# Altium integrated library Altium_WE-XTAL (rev19a).IntLib: 251 symbols (part 4 of 4)
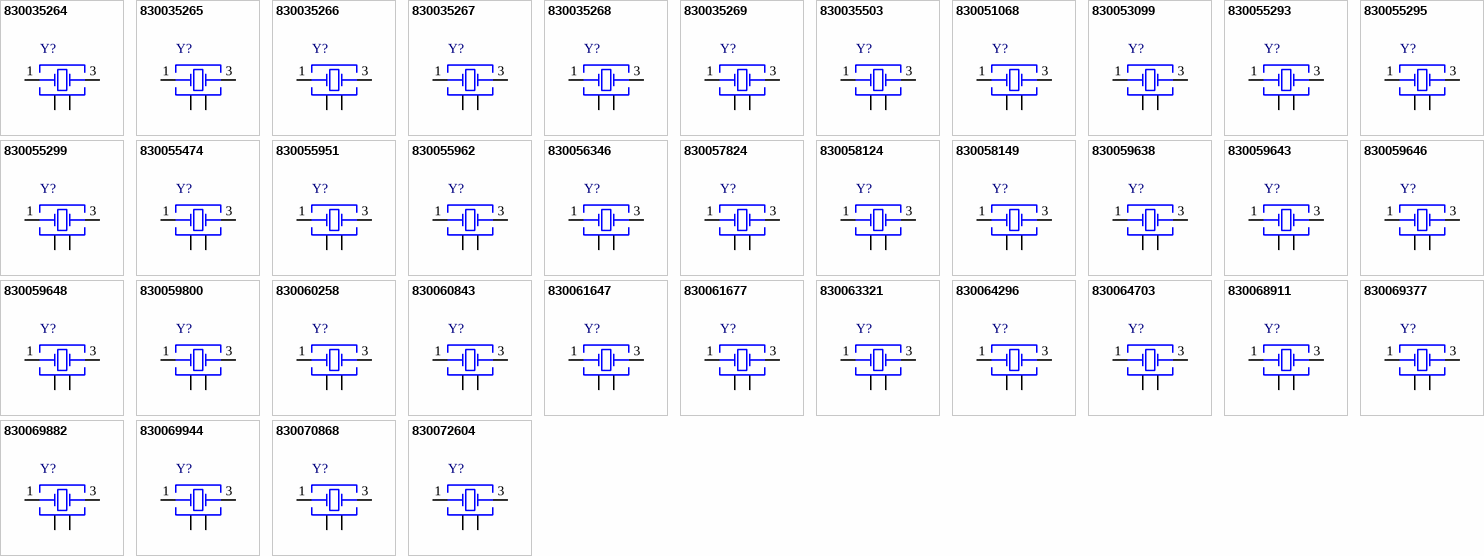
[diagram p20: symbols 830035264 to 830072604]

## 830069944
designator Y?, comment 12MHz, +/-20ppm, 15pF  (value not drawn)
WE-XTAL Quartz Crystal, size CFPX-180, 12MHz, +/-20ppm, 15pF; Part Number: 830069944; Frequency Stability: 30ppm; ComponentLink1Description: Manufacturer; ComponentLink1URL: http://www.we-online.de; ComponentLink2Description: Datasheet; ComponentLink2URL: https://katalog.we-online.com/pbs/datasheet/830069944.pdf; Published Date: March 2019; Publisher: Wurth Elektronik; Size: CFPX-180; Operating Temperature: -40 up to +85degC; Mounting Technology: SMT; Packaging: Tape and Reel; Load Capacitance: 15pF; Frequency Tolerance: +/-20ppm; Frequency: 12MHz
footprint WE-XTAL_CFPX-180
pins: 1 OSC1, 2 GND, 3 OSC2, 4 GND

## 830070868
designator Y?, comment 12MHz, +/-10ppm, 18pF  (value not drawn)
WE-XTAL Quartz Crystal, size CFPX-180, 12MHz, +/-10ppm, 18pF; Part Number: 830070868; Frequency Stability: 20ppm; ComponentLink1Description: Manufacturer; ComponentLink1URL: http://www.we-online.de; ComponentLink2Description: Datasheet; ComponentLink2URL: https://katalog.we-online.com/pbs/datasheet/830070868.pdf; Published Date: March 2019; Publisher: Wurth Elektronik; Size: CFPX-180; Operating Temperature: -40 up to +85degC; Mounting Technology: SMT; Packaging: Tape and Reel; Load Capacitance: 18pF; Frequency Tolerance: +/-10ppm; Frequency: 12MHz
footprint WE-XTAL_CFPX-180
pins: 1 OSC1, 2 GND, 3 OSC2, 4 GND

## 830072604
designator Y?, comment 25MHz, +/-10ppm, 8pF  (value not drawn)
WE-XTAL Quartz Crystal, size CFPX-180, 25MHz, +/-10ppm, 8pF; Part Number: 830072604; Frequency Stability: 20ppm; ComponentLink1Description: Manufacturer; ComponentLink1URL: http://www.we-online.de; ComponentLink2Description: Datasheet; ComponentLink2URL: https://katalog.we-online.com/pbs/datasheet/830072604.pdf; Published Date: March 2019; Publisher: Wurth Elektronik; Size: CFPX-180; Operating Temperature: -40 up to +85degC; Mounting Technology: SMT; Packaging: Tape and Reel; Load Capacitance: 8pF; Frequency Tolerance: +/-10ppm; Frequency: 25MHz
footprint WE-XTAL_CFPX-180
pins: 1 OSC1, 2 GND, 3 OSC2, 4 GND


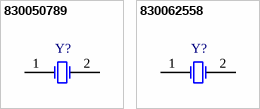
[diagram p13: symbols 830050789 to 830062558]

## 830050789
designator Y?, comment 32.768kHz, +/-20ppm, 12.5pF  (value not drawn)
WE-XTAL Quartz Crystal, size IQXC-25, 32.768kHz, +/-20ppm, 12.5pF; Part Number: 830050789; ComponentLink1Description: Manufacturer; ComponentLink1URL: http://www.we-online.de; ComponentLink2Description: Datasheet; ComponentLink2URL: https://katalog.we-online.com/pbs/datasheet/830050789.pdf; Published Date: March 2019; Publisher: Wurth Elektronik; Size: IQXC-25; Frequency Stability: -; Operating Temperature: -40 up to +85degC; Mounting Technology: SMT; Packaging: Tape and Reel; Load Capacitance: 12.5pF; Frequency Tolerance: +/-20ppm; Frequency: 32.768kHz
footprint WE-XTAL_IQXC-25
pins: 1 OSC1, 2 OSC2

## 830062558
designator Y?, comment 32.768kHz, +/-10ppm, 9pF  (value not drawn)
WE-XTAL Quartz Crystal, size IQXC-25, 32.768kHz, +/-10ppm, 9pF; Part Number: 830062558; ComponentLink1Description: Manufacturer; ComponentLink1URL: http://www.we-online.de; ComponentLink2Description: Datasheet; ComponentLink2URL: https://katalog.we-online.com/pbs/datasheet/830062558.pdf; Published Date: March 2019; Publisher: Wurth Elektronik; Size: IQXC-25; Frequency Stability: -; Operating Temperature: -40 up to +85degC; Mounting Technology: SMT; Packaging: Tape and Reel; Load Capacitance: 9pF; Frequency Tolerance: +/-10ppm; Frequency: 32.768kHz
footprint WE-XTAL_IQXC-25
pins: 1 OSC1, 2 OSC2


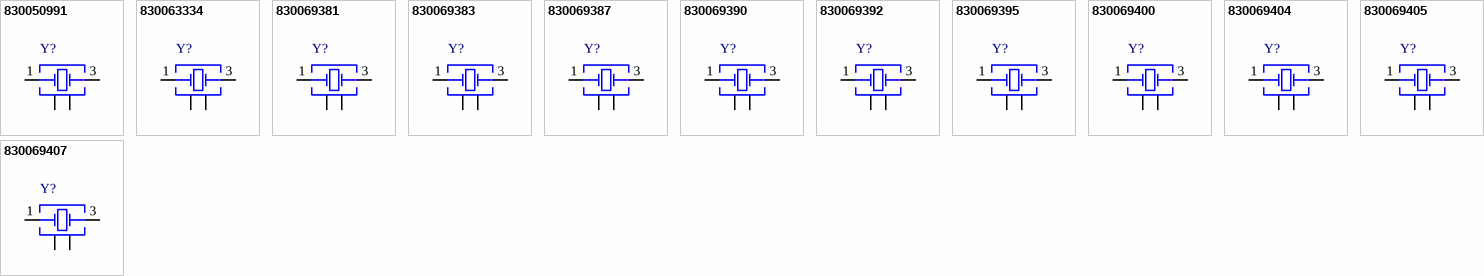
[diagram p14: symbols 830050991 to 830069407]

## 830050991
designator Y?, comment 26MHz, +/-20ppm, 10pF  (value not drawn)
WE-XTAL Quartz Crystal, size CFPX-218, 26MHz, +/-20ppm, 10pF; Part Number: 830050991; Frequency Stability: 20ppm; ComponentLink1Description: Manufacturer; ComponentLink1URL: http://www.we-online.de; ComponentLink2Description: Datasheet; ComponentLink2URL: https://katalog.we-online.com/pbs/datasheet/830050991.pdf; Published Date: March 2019; Publisher: Wurth Elektronik; Size: CFPX-218; Operating Temperature: -40 up to +85degC; Mounting Technology: SMT; Packaging: Tape and Reel; Load Capacitance: 10pF; Frequency Tolerance: +/-20ppm; Frequency: 26MHz
footprint WE-XTAL_CFPX-218
pins: 1 OSC1, 2 GND, 3 OSC2, 4 GND

## 830063334
designator Y?, comment 25MHz, +/-20ppm, 10pF  (value not drawn)
WE-XTAL Quartz Crystal, size CFPX-218, 25MHz, +/-20ppm, 10pF; Part Number: 830063334; Frequency Stability: 20ppm; ComponentLink1Description: Manufacturer; ComponentLink1URL: http://www.we-online.de; ComponentLink2Description: Datasheet; ComponentLink2URL: https://katalog.we-online.com/pbs/datasheet/830063334.pdf; Published Date: March 2019; Publisher: Wurth Elektronik; Size: CFPX-218; Operating Temperature: -40 up to +85degC; Mounting Technology: SMT; Packaging: Tape and Reel; Load Capacitance: 10pF; Frequency Tolerance: +/-20ppm; Frequency: 25MHz
footprint WE-XTAL_CFPX-218
pins: 1 OSC1, 2 GND, 3 OSC2, 4 GND

## 830069381
designator Y?, comment 20MHz, +/-20ppm, 10pF  (value not drawn)
WE-XTAL Quartz Crystal, size CFPX-218, 20MHz, +/-20ppm, 10pF; Part Number: 830069381; Frequency Stability: 20ppm; ComponentLink1Description: Manufacturer; ComponentLink1URL: http://www.we-online.de; ComponentLink2Description: Datasheet; ComponentLink2URL: https://katalog.we-online.com/pbs/datasheet/830069381.pdf; Published Date: March 2019; Publisher: Wurth Elektronik; Size: CFPX-218; Operating Temperature: -40 up to +85degC; Mounting Technology: SMT; Packaging: Tape and Reel; Load Capacitance: 10pF; Frequency Tolerance: +/-20ppm; Frequency: 20MHz
footprint WE-XTAL_CFPX-218
pins: 1 OSC1, 2 GND, 3 OSC2, 4 GND

## 830069383
designator Y?, comment 24MHz, +/-20ppm, 10pF  (value not drawn)
WE-XTAL Quartz Crystal, size CFPX-218, 24MHz, +/-20ppm, 10pF; Part Number: 830069383; Frequency Stability: 20ppm; ComponentLink1Description: Manufacturer; ComponentLink1URL: http://www.we-online.de; ComponentLink2Description: Datasheet; ComponentLink2URL: https://katalog.we-online.com/pbs/datasheet/830069383.pdf; Published Date: March 2019; Publisher: Wurth Elektronik; Size: CFPX-218; Operating Temperature: -40 up to +85degC; Mounting Technology: SMT; Packaging: Tape and Reel; Load Capacitance: 10pF; Frequency Tolerance: +/-20ppm; Frequency: 24MHz
footprint WE-XTAL_CFPX-218
pins: 1 OSC1, 2 GND, 3 OSC2, 4 GND

## 830069387
designator Y?, comment 24.576MHz, +/-20ppm, 10pF  (value not drawn)
WE-XTAL Quartz Crystal, size CFPX-218, 24.576MHz, +/-20ppm, 10pF; Part Number: 830069387; Frequency Stability: 20ppm; ComponentLink1Description: Manufacturer; ComponentLink1URL: http://www.we-online.de; ComponentLink2Description: Datasheet; ComponentLink2URL: https://katalog.we-online.com/pbs/datasheet/830069387.pdf; Published Date: March 2019; Publisher: Wurth Elektronik; Size: CFPX-218; Operating Temperature: -40 up to +85degC; Mounting Technology: SMT; Packaging: Tape and Reel; Load Capacitance: 10pF; Frequency Tolerance: +/-20ppm; Frequency: 24.576MHz
footprint WE-XTAL_CFPX-218
pins: 1 OSC1, 2 GND, 3 OSC2, 4 GND

## 830069390
designator Y?, comment 32MHz, +/-20ppm, 10pF  (value not drawn)
WE-XTAL Quartz Crystal, size CFPX-218, 32MHz, +/-20ppm, 10pF; Part Number: 830069390; Frequency Stability: 20ppm; ComponentLink1Description: Manufacturer; ComponentLink1URL: http://www.we-online.de; ComponentLink2Description: Datasheet; ComponentLink2URL: https://katalog.we-online.com/pbs/datasheet/830069390.pdf; Published Date: March 2019; Publisher: Wurth Elektronik; Size: CFPX-218; Operating Temperature: -40 up to +85degC; Mounting Technology: SMT; Packaging: Tape and Reel; Load Capacitance: 10pF; Frequency Tolerance: +/-20ppm; Frequency: 32MHz
footprint WE-XTAL_CFPX-218
pins: 1 OSC1, 2 GND, 3 OSC2, 4 GND

## 830069392
designator Y?, comment 16MHz, +/-20ppm, 10pF  (value not drawn)
WE-XTAL Quartz Crystal, size CFPX-218, 16MHz, +/-20ppm, 10pF; Part Number: 830069392; Frequency Stability: 20ppm; ComponentLink1Description: Manufacturer; ComponentLink1URL: http://www.we-online.de; ComponentLink2Description: Datasheet; ComponentLink2URL: https://katalog.we-online.com/pbs/datasheet/830069392.pdf; Published Date: March 2019; Publisher: Wurth Elektronik; Size: CFPX-218; Operating Temperature: -40 up to +85degC; Mounting Technology: SMT; Packaging: Tape and Reel; Load Capacitance: 10pF; Frequency Tolerance: +/-20ppm; Frequency: 16MHz
footprint WE-XTAL_CFPX-218
pins: 1 OSC1, 2 GND, 3 OSC2, 4 GND

## 830069395
designator Y?, comment 16.384MHz, +/-20ppm, 10pF  (value not drawn)
WE-XTAL Quartz Crystal, size CFPX-218, 16.384MHz, +/-20ppm, 10pF; Part Number: 830069395; Frequency Stability: 20ppm; ComponentLink1Description: Manufacturer; ComponentLink1URL: http://www.we-online.de; ComponentLink2Description: Datasheet; ComponentLink2URL: https://katalog.we-online.com/pbs/datasheet/830069395.pdf; Published Date: March 2019; Publisher: Wurth Elektronik; Size: CFPX-218; Operating Temperature: -40 up to +85degC; Mounting Technology: SMT; Packaging: Tape and Reel; Load Capacitance: 10pF; Frequency Tolerance: +/-20ppm; Frequency: 16.384MHz
footprint WE-XTAL_CFPX-218
pins: 1 OSC1, 2 GND, 3 OSC2, 4 GND

## 830069400
designator Y?, comment 18.432MHz, +/-20ppm, 18pF  (value not drawn)
WE-XTAL Quartz Crystal, size CFPX-218, 18.432MHz, +/-20ppm, 18pF; Part Number: 830069400; Frequency Stability: 20ppm; ComponentLink1Description: Manufacturer; ComponentLink1URL: http://www.we-online.de; ComponentLink2Description: Datasheet; ComponentLink2URL: https://katalog.we-online.com/pbs/datasheet/830069400.pdf; Published Date: March 2019; Publisher: Wurth Elektronik; Size: CFPX-218; Operating Temperature: -40 up to +85degC; Mounting Technology: SMT; Packaging: Tape and Reel; Load Capacitance: 18pF; Frequency Tolerance: +/-20ppm; Frequency: 18.432MHz
footprint WE-XTAL_CFPX-218
pins: 1 OSC1, 2 GND, 3 OSC2, 4 GND

## 830069404
designator Y?, comment 19.2MHz, +/-20ppm, 10pF  (value not drawn)
WE-XTAL Quartz Crystal, size CFPX-218, 19.2MHz, +/-20ppm, 10pF; Part Number: 830069404; Frequency Stability: 20ppm; ComponentLink1Description: Manufacturer; ComponentLink1URL: http://www.we-online.de; ComponentLink2Description: Datasheet; ComponentLink2URL: https://katalog.we-online.com/pbs/datasheet/830069404.pdf; Published Date: March 2019; Publisher: Wurth Elektronik; Size: CFPX-218; Operating Temperature: -40 up to +85degC; Mounting Technology: SMT; Packaging: Tape and Reel; Load Capacitance: 10pF; Frequency Tolerance: +/-20ppm; Frequency: 19.2MHz
footprint WE-XTAL_CFPX-218
pins: 1 OSC1, 2 GND, 3 OSC2, 4 GND

## 830069405
designator Y?, comment 27MHz, +/-20ppm, 18pF  (value not drawn)
WE-XTAL Quartz Crystal, size CFPX-218, 27MHz, +/-20ppm, 18pF; Part Number: 830069405; Frequency Stability: 20ppm; ComponentLink1Description: Manufacturer; ComponentLink1URL: http://www.we-online.de; ComponentLink2Description: Datasheet; ComponentLink2URL: https://katalog.we-online.com/pbs/datasheet/830069405.pdf; Published Date: March 2019; Publisher: Wurth Elektronik; Size: CFPX-218; Operating Temperature: -40 up to +85degC; Mounting Technology: SMT; Packaging: Tape and Reel; Load Capacitance: 18pF; Frequency Tolerance: +/-20ppm; Frequency: 27MHz
footprint WE-XTAL_CFPX-218
pins: 1 OSC1, 2 GND, 3 OSC2, 4 GND

## 830069407
designator Y?, comment 30MHz, +/-20ppm, 10pF  (value not drawn)
WE-XTAL Quartz Crystal, size CFPX-218, 30MHz, +/-20ppm, 10pF; Part Number: 830069407; Frequency Stability: 20ppm; ComponentLink1Description: Manufacturer; ComponentLink1URL: http://www.we-online.de; ComponentLink2Description: Datasheet; ComponentLink2URL: https://katalog.we-online.com/pbs/datasheet/830069407.pdf; Published Date: March 2019; Publisher: Wurth Elektronik; Size: CFPX-218; Operating Temperature: -40 up to +85degC; Mounting Technology: SMT; Packaging: Tape and Reel; Load Capacitance: 10pF; Frequency Tolerance: +/-20ppm; Frequency: 30MHz
footprint WE-XTAL_CFPX-218
pins: 1 OSC1, 2 GND, 3 OSC2, 4 GND


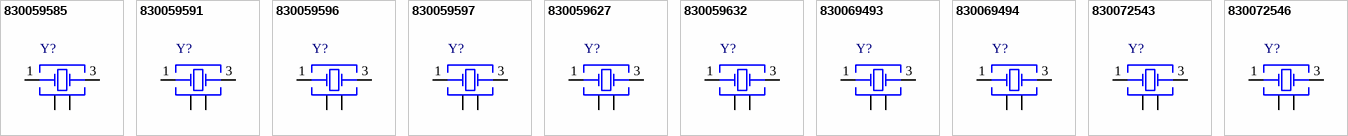
[diagram p15: symbols 830059585 to 830072546]

## 830059585
designator Y?, comment 20MHz, +/-15ppm, 10pF  (value not drawn)
WE-XTAL Quartz Crystal, size IQXC-42, 20MHz, +/-15ppm, 10pF; Part Number: 830059585; Frequency Stability: 20ppm; ComponentLink1Description: Manufacturer; ComponentLink1URL: http://www.we-online.de; ComponentLink2Description: Datasheet; ComponentLink2URL: https://katalog.we-online.com/pbs/datasheet/830059585.pdf; Published Date: March 2019; Publisher: Wurth Elektronik; Size: IQXC-42; Operating Temperature: -40 up to +85degC; Mounting Technology: SMT; Packaging: Tape and Reel; Load Capacitance: 10pF; Frequency Tolerance: +/-15ppm; Frequency: 20MHz
footprint WE-XTAL_IQXC-42
pins: 1 OSC1, 2 GND, 3 OSC2, 4 GND

## 830059591
designator Y?, comment 26MHz, +/-15ppm, 10pF  (value not drawn)
WE-XTAL Quartz Crystal, size IQXC-42, 26MHz, +/-15ppm, 10pF; Part Number: 830059591; Frequency Stability: 20ppm; ComponentLink1Description: Manufacturer; ComponentLink1URL: http://www.we-online.de; ComponentLink2Description: Datasheet; ComponentLink2URL: https://katalog.we-online.com/pbs/datasheet/830059591.pdf; Published Date: March 2019; Publisher: Wurth Elektronik; Size: IQXC-42; Operating Temperature: -40 up to +85degC; Mounting Technology: SMT; Packaging: Tape and Reel; Load Capacitance: 10pF; Frequency Tolerance: +/-15ppm; Frequency: 26MHz
footprint WE-XTAL_IQXC-42
pins: 1 OSC1, 2 GND, 3 OSC2, 4 GND

## 830059596
designator Y?, comment 30MHz, +/-15ppm, 10pF  (value not drawn)
WE-XTAL Quartz Crystal, size IQXC-42, 30MHz, +/-15ppm, 10pF; Part Number: 830059596; Frequency Stability: 20ppm; ComponentLink1Description: Manufacturer; ComponentLink1URL: http://www.we-online.de; ComponentLink2Description: Datasheet; ComponentLink2URL: https://katalog.we-online.com/pbs/datasheet/830059596.pdf; Published Date: March 2019; Publisher: Wurth Elektronik; Size: IQXC-42; Operating Temperature: -40 up to +85degC; Mounting Technology: SMT; Packaging: Tape and Reel; Load Capacitance: 10pF; Frequency Tolerance: +/-15ppm; Frequency: 30MHz
footprint WE-XTAL_IQXC-42
pins: 1 OSC1, 2 GND, 3 OSC2, 4 GND

## 830059597
designator Y?, comment 32MHz, +/-15ppm, 10pF  (value not drawn)
WE-XTAL Quartz Crystal, size IQXC-42, 32MHz, +/-15ppm, 10pF; Part Number: 830059597; Frequency Stability: 20ppm; ComponentLink1Description: Manufacturer; ComponentLink1URL: http://www.we-online.de; ComponentLink2Description: Datasheet; ComponentLink2URL: https://katalog.we-online.com/pbs/datasheet/830059597.pdf; Published Date: March 2019; Publisher: Wurth Elektronik; Size: IQXC-42; Operating Temperature: -40 up to +85degC; Mounting Technology: SMT; Packaging: Tape and Reel; Load Capacitance: 10pF; Frequency Tolerance: +/-15ppm; Frequency: 32MHz
footprint WE-XTAL_IQXC-42
pins: 1 OSC1, 2 GND, 3 OSC2, 4 GND

## 830059627
designator Y?, comment 38.4MHz, +/-15ppm, 10pF  (value not drawn)
WE-XTAL Quartz Crystal, size IQXC-42, 38.4MHz, +/-15ppm, 10pF; Part Number: 830059627; Frequency Stability: 30ppm; ComponentLink1Description: Manufacturer; ComponentLink1URL: http://www.we-online.de; ComponentLink2Description: Datasheet; ComponentLink2URL: https://katalog.we-online.com/pbs/datasheet/830059627.pdf; Published Date: March 2019; Publisher: Wurth Elektronik; Size: IQXC-42; Operating Temperature: -40 up to +85degC; Mounting Technology: SMT; Packaging: Tape and Reel; Load Capacitance: 10pF; Frequency Tolerance: +/-15ppm; Frequency: 38.4MHz
footprint WE-XTAL_IQXC-42
pins: 1 OSC1, 2 GND, 3 OSC2, 4 GND

## 830059632
designator Y?, comment 40MHz, +/-15ppm, 10pF  (value not drawn)
WE-XTAL Quartz Crystal, size IQXC-42, 40MHz, +/-15ppm, 10pF; Part Number: 830059632; Frequency Stability: 20ppm; ComponentLink1Description: Manufacturer; ComponentLink1URL: http://www.we-online.de; ComponentLink2Description: Datasheet; ComponentLink2URL: https://katalog.we-online.com/pbs/datasheet/830059632.pdf; Published Date: March 2019; Publisher: Wurth Elektronik; Size: IQXC-42; Operating Temperature: -40 up to +85degC; Mounting Technology: SMT; Packaging: Tape and Reel; Load Capacitance: 10pF; Frequency Tolerance: +/-15ppm; Frequency: 40MHz
footprint WE-XTAL_IQXC-42
pins: 1 OSC1, 2 GND, 3 OSC2, 4 GND

## 830069493
designator Y?, comment 24MHz, +/-15ppm, 10pF  (value not drawn)
WE-XTAL Quartz Crystal, size IQXC-42, 24MHz, +/-15ppm, 10pF; Part Number: 830069493; Frequency Stability: 20ppm; ComponentLink1Description: Manufacturer; ComponentLink1URL: http://www.we-online.de; ComponentLink2Description: Datasheet; ComponentLink2URL: https://katalog.we-online.com/pbs/datasheet/830069493.pdf; Published Date: March 2019; Publisher: Wurth Elektronik; Size: IQXC-42; Operating Temperature: -40 up to +85degC; Mounting Technology: SMT; Packaging: Tape and Reel; Load Capacitance: 10pF; Frequency Tolerance: +/-15ppm; Frequency: 24MHz
footprint WE-XTAL_IQXC-42
pins: 1 OSC1, 2 GND, 3 OSC2, 4 GND

## 830069494
designator Y?, comment 25MHz, +/-15ppm, 10pF  (value not drawn)
WE-XTAL Quartz Crystal, size IQXC-42, 25MHz, +/-15ppm, 10pF; Part Number: 830069494; Frequency Stability: 20ppm; ComponentLink1Description: Manufacturer; ComponentLink1URL: http://www.we-online.de; ComponentLink2Description: Datasheet; ComponentLink2URL: https://katalog.we-online.com/pbs/datasheet/830069494.pdf; Published Date: March 2019; Publisher: Wurth Elektronik; Size: IQXC-42; Operating Temperature: -40 up to +85degC; Mounting Technology: SMT; Packaging: Tape and Reel; Load Capacitance: 10pF; Frequency Tolerance: +/-15ppm; Frequency: 25MHz
footprint WE-XTAL_IQXC-42
pins: 1 OSC1, 2 GND, 3 OSC2, 4 GND

## 830072543
designator Y?, comment 27MHz, +/-15ppm, 10pF  (value not drawn)
WE-XTAL Quartz Crystal, size IQXC-42, 27MHz, +/-15ppm, 10pF; Part Number: 830072543; Frequency Stability: 20ppm; ComponentLink1Description: Manufacturer; ComponentLink1URL: http://www.we-online.de; ComponentLink2Description: Datasheet; ComponentLink2URL: https://katalog.we-online.com/pbs/datasheet/830072543.pdf; Published Date: March 2019; Publisher: Wurth Elektronik; Size: IQXC-42; Operating Temperature: -40 up to +85degC; Mounting Technology: SMT; Packaging: Tape and Reel; Load Capacitance: 10pF; Frequency Tolerance: +/-15ppm; Frequency: 27MHz
footprint WE-XTAL_IQXC-42
pins: 1 OSC1, 2 GND, 3 OSC2, 4 GND

## 830072546
designator Y?, comment 48MHz, +/-15ppm, 10pF  (value not drawn)
WE-XTAL Quartz Crystal, size IQXC-42, 48MHz, +/-15ppm, 10pF; Part Number: 830072546; Frequency Stability: 20ppm; ComponentLink1Description: Manufacturer; ComponentLink1URL: http://www.we-online.de; ComponentLink2Description: Datasheet; ComponentLink2URL: https://katalog.we-online.com/pbs/datasheet/830072546.pdf; Published Date: March 2019; Publisher: Wurth Elektronik; Size: IQXC-42; Operating Temperature: -40 up to +85degC; Mounting Technology: SMT; Packaging: Tape and Reel; Load Capacitance: 10pF; Frequency Tolerance: +/-15ppm; Frequency: 48MHz
footprint WE-XTAL_IQXC-42
pins: 1 OSC1, 2 GND, 3 OSC2, 4 GND


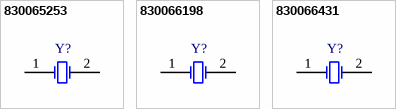
[diagram p16: symbols 830065253 to 830066431]

## 830065253
designator Y?, comment 32.768kHz, +/-20ppm, 12.5pF  (value not drawn)
WE-XTAL Quartz Crystal, size IQXC-90, 32.768kHz, +/-20ppm, 12.5pF; Part Number: 830065253; ComponentLink1Description: Manufacturer; ComponentLink1URL: http://www.we-online.de; ComponentLink2Description: Datasheet; ComponentLink2URL: https://katalog.we-online.com/pbs/datasheet/830065253.pdf; Published Date: March 2019; Publisher: Wurth Elektronik; Size: IQXC-90; Frequency Stability: -; Operating Temperature: -40 up to +85degC; Mounting Technology: SMT; Packaging: Tape and Reel; Load Capacitance: 12.5pF; Frequency Tolerance: +/-20ppm; Frequency: 32.768kHz
footprint WE-XTAL_IQXC-90
pins: 1 OSC1, 2 OSC2

## 830066198
designator Y?, comment 32.768kHz, +/-20ppm, 9pF  (value not drawn)
WE-XTAL Quartz Crystal, size IQXC-90, 32.768kHz, +/-20ppm, 9pF; Part Number: 830066198; ComponentLink1Description: Manufacturer; ComponentLink1URL: http://www.we-online.de; ComponentLink2Description: Datasheet; ComponentLink2URL: https://katalog.we-online.com/pbs/datasheet/830066198.pdf; Published Date: March 2019; Publisher: Wurth Elektronik; Size: IQXC-90; Frequency Stability: -; Operating Temperature: -40 up to +85degC; Mounting Technology: SMT; Packaging: Tape and Reel; Load Capacitance: 9pF; Frequency Tolerance: +/-20ppm; Frequency: 32.768kHz
footprint WE-XTAL_IQXC-90
pins: 1 OSC1, 2 OSC2

## 830066431
designator Y?, comment 32.768kHz, +/-20ppm, 7pF  (value not drawn)
WE-XTAL Quartz Crystal, size IQXC-90, 32.768kHz, +/-20ppm, 7pF; Part Number: 830066431; ComponentLink1Description: Manufacturer; ComponentLink1URL: http://www.we-online.de; ComponentLink2Description: Datasheet; ComponentLink2URL: https://katalog.we-online.com/pbs/datasheet/830066431.pdf; Published Date: March 2019; Publisher: Wurth Elektronik; Size: IQXC-90; Frequency Stability: -; Operating Temperature: -40 up to +85degC; Mounting Technology: SMT; Packaging: Tape and Reel; Load Capacitance: 7pF; Frequency Tolerance: +/-20ppm; Frequency: 32.768kHz
footprint WE-XTAL_IQXC-90
pins: 1 OSC1, 2 OSC2


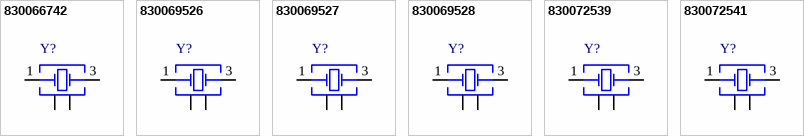
[diagram p17: symbols 830066742 to 830072541]

## 830066742
designator Y?, comment 26MHz, +/-15ppm, 8pF  (value not drawn)
WE-XTAL Quartz Crystal, size IQXC-26, 26MHz, +/-15ppm, 8pF; Part Number: 830066742; Frequency Stability: 15ppm; ComponentLink1Description: Manufacturer; ComponentLink1URL: http://www.we-online.de; ComponentLink2Description: Datasheet; ComponentLink2URL: https://katalog.we-online.com/pbs/datasheet/830066742.pdf; Published Date: March 2019; Publisher: Wurth Elektronik; Size: IQXC-26; Operating Temperature: -20 up to +70degC; Mounting Technology: SMT; Packaging: Tape and Reel; Load Capacitance: 8pF; Frequency Tolerance: +/-15ppm; Frequency: 26MHz
footprint WE-XTAL_IQXC-26
pins: 1 OSC1, 2 GND, 3 OSC2, 4 GND

## 830069526
designator Y?, comment 32MHz, +/-15ppm, 8pF  (value not drawn)
WE-XTAL Quartz Crystal, size IQXC-26, 32MHz, +/-15ppm, 8pF; Part Number: 830069526; Frequency Stability: 15ppm; ComponentLink1Description: Manufacturer; ComponentLink1URL: http://www.we-online.de; ComponentLink2Description: Datasheet; ComponentLink2URL: https://katalog.we-online.com/pbs/datasheet/830069526.pdf; Published Date: March 2019; Publisher: Wurth Elektronik; Size: IQXC-26; Operating Temperature: -20 up to +70degC; Mounting Technology: SMT; Packaging: Tape and Reel; Load Capacitance: 8pF; Frequency Tolerance: +/-15ppm; Frequency: 32MHz
footprint WE-XTAL_IQXC-26
pins: 1 OSC1, 2 GND, 3 OSC2, 4 GND

## 830069527
designator Y?, comment 40MHz, +/-15ppm, 8pF  (value not drawn)
WE-XTAL Quartz Crystal, size IQXC-26, 40MHz, +/-15ppm, 8pF; Part Number: 830069527; Frequency Stability: 15ppm; ComponentLink1Description: Manufacturer; ComponentLink1URL: http://www.we-online.de; ComponentLink2Description: Datasheet; ComponentLink2URL: https://katalog.we-online.com/pbs/datasheet/830069527.pdf; Published Date: March 2019; Publisher: Wurth Elektronik; Size: IQXC-26; Operating Temperature: -20 up to +70degC; Mounting Technology: SMT; Packaging: Tape and Reel; Load Capacitance: 8pF; Frequency Tolerance: +/-15ppm; Frequency: 40MHz
footprint WE-XTAL_IQXC-26
pins: 1 OSC1, 2 GND, 3 OSC2, 4 GND

## 830069528
designator Y?, comment 48MHz, +/-15ppm, 8pF  (value not drawn)
WE-XTAL Quartz Crystal, size IQXC-26, 48MHz, +/-15ppm, 8pF; Part Number: 830069528; Frequency Stability: 15ppm; ComponentLink1Description: Manufacturer; ComponentLink1URL: http://www.we-online.de; ComponentLink2Description: Datasheet; ComponentLink2URL: https://katalog.we-online.com/pbs/datasheet/830069528.pdf; Published Date: March 2019; Publisher: Wurth Elektronik; Size: IQXC-26; Operating Temperature: -20 up to +70degC; Mounting Technology: SMT; Packaging: Tape and Reel; Load Capacitance: 8pF; Frequency Tolerance: +/-15ppm; Frequency: 48MHz
footprint WE-XTAL_IQXC-26
pins: 1 OSC1, 2 GND, 3 OSC2, 4 GND

## 830072539
designator Y?, comment 24MHz, +/-15ppm, 8pF  (value not drawn)
WE-XTAL Quartz Crystal, size IQXC-26, 24MHz, +/-15ppm, 8pF; Part Number: 830072539; Frequency Stability: 15ppm; ComponentLink1Description: Manufacturer; ComponentLink1URL: http://www.we-online.de; ComponentLink2Description: Datasheet; ComponentLink2URL: https://katalog.we-online.com/pbs/datasheet/830072539.pdf; Published Date: March 2019; Publisher: Wurth Elektronik; Size: IQXC-26; Operating Temperature: -20 up to +70degC; Mounting Technology: SMT; Packaging: Tape and Reel; Load Capacitance: 8pF; Frequency Tolerance: +/-15ppm; Frequency: 24MHz
footprint WE-XTAL_IQXC-26
pins: 1 OSC1, 2 GND, 3 OSC2, 4 GND

## 830072541
designator Y?, comment 27MHz, +/-15ppm, 8pF  (value not drawn)
WE-XTAL Quartz Crystal, size IQXC-26, 27MHz, +/-15ppm, 8pF; Part Number: 830072541; Frequency Stability: 15ppm; ComponentLink1Description: Manufacturer; ComponentLink1URL: http://www.we-online.de; ComponentLink2Description: Datasheet; ComponentLink2URL: https://katalog.we-online.com/pbs/datasheet/830072541.pdf; Published Date: March 2019; Publisher: Wurth Elektronik; Size: IQXC-26; Operating Temperature: -20 up to +70degC; Mounting Technology: SMT; Packaging: Tape and Reel; Load Capacitance: 8pF; Frequency Tolerance: +/-15ppm; Frequency: 27MHz
footprint WE-XTAL_IQXC-26
pins: 1 OSC1, 2 GND, 3 OSC2, 4 GND